# Altium footprint library 纽扣电池座.PcbLib: 5 footprints
Each footprint in its own frame and in the unit in brackets; x right, y up, seen from the top. Pads: shape width x height; smd on the part's side, far side on the other; paste and mask are expansions set on the pad; w line width, h text height; cw(c..) or ccw(c..) is an arc to the next point about the centre after c.
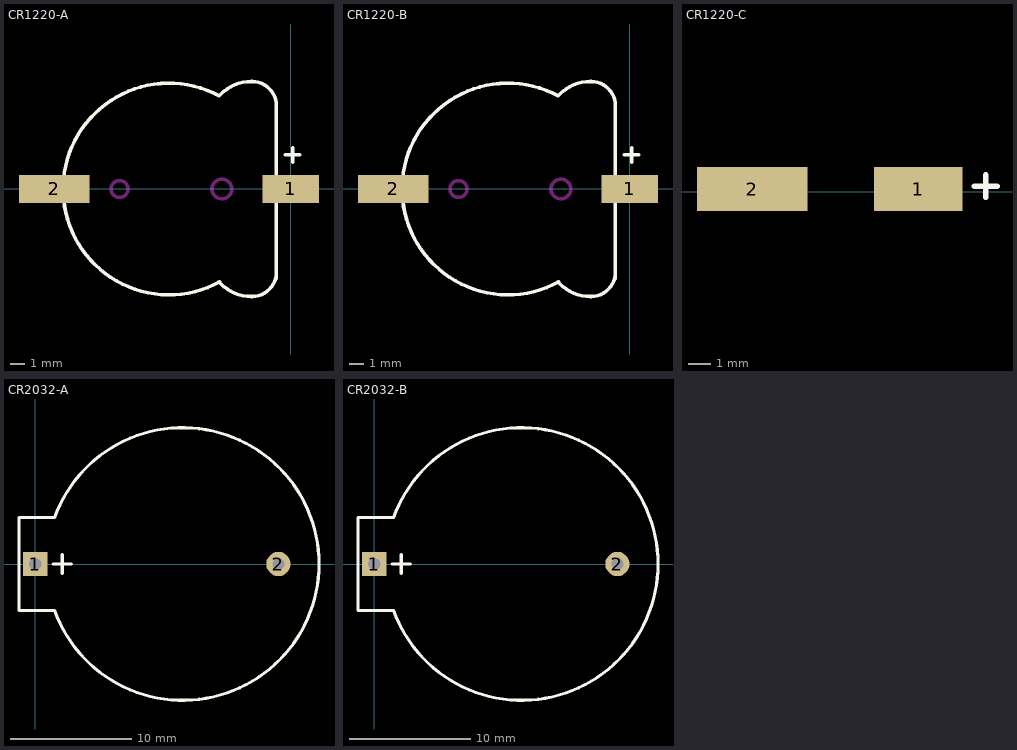
[diagram p0: the footprints below, top view; thin cyan lines are the x and y axes]

## CR1220-A [mm]
pads (2):
  rect 4x2 smd: 1(0,0)
  rect 5x2 smd: 2(-16.764,0)
Top Overlay:
  lines w0.254: -5.08,-6.604 -4.962,-6.722 ccw(c-2.794,-4.554) -2.794,-7.62 -2.75,-7.62 ccw(c-2.75,-5.886) -1.524,-7.112 ccw(c-2.75,-5.886) -1.016,-5.886 ; -5.039,-6.582 cw(c-8.636,0) -5.08,6.604 -4.962,6.722 cw(c-2.794,4.554) -2.794,7.62 -2.75,7.62 cw(c-2.75,5.886) -1.524,7.112 cw(c-2.75,5.886) -1.016,5.886 -1.016,1.016 ; -1.016,-6.35 -1.016,-6.096 -1.016,-1.016 ; -0.381,2.413 0.635,2.413 ; 0.127,1.905 0.127,2.921
Keep-Out Layer:
  circle w0.254: c-12.136,0 r0.6
  circle w0.254: c-4.886,0 r0.7
3D body "CR1220-A.STEP": height 4.05, standoff -0.85, extent -18.768,-7.366 0.988,7.534

## CR1220-B [mm]
pads (2):
  rect 4x2 smd: 1(0,0)
  rect 5x2 smd: 2(-16.764,0)
Top Overlay:
  lines w0.254: -5.08,-6.604 -4.962,-6.722 ccw(c-2.794,-4.554) -2.794,-7.62 -2.75,-7.62 ccw(c-2.75,-5.886) -1.524,-7.112 ccw(c-2.75,-5.886) -1.016,-5.886 ; -5.039,-6.582 cw(c-8.636,0) -5.08,6.604 -4.962,6.722 cw(c-2.794,4.554) -2.794,7.62 -2.75,7.62 cw(c-2.75,5.886) -1.524,7.112 cw(c-2.75,5.886) -1.016,5.886 -1.016,1.016 ; -1.016,-6.35 -1.016,-6.096 -1.016,-1.016 ; -0.381,2.413 0.635,2.413 ; 0.127,1.905 0.127,2.921
Keep-Out Layer:
  circle w0.254: c-12.136,0 r0.6
  circle w0.254: c-4.886,0 r0.7
3D body "CR1220-B.STEP": height 4.05, standoff -0.85, extent -18.514,-7.28 1.242,7.62

## CR1220-C [mm]
pads (2):
  rect 4x2 smd: 1(-4.572,0.127)
  rect 5x2 smd: 2(-12.065,0.127)
Top Overlay:
  lines w0.254: -2.032,0.254 -1.016,0.254 ; -1.524,-0.254 -1.524,0.762
Keep-Out Layer:
  circle w0.254: c-12.136,0 r0.6
  circle w0.254: c-4.886,0 r0.7
3D body "CR1220-立式.STEP": height 13.25, standoff -2.48, extent -15.013,-1.207 -2.513,1.493

## CR2032-A [mm]
pads (2):
  rect 2x2 hole 1: 1(0,0)
  round 2 hole 1: 2(20,0)
Top Overlay:
  lines w0.254: 1.458,0 2.982,0 ; 2.22,-0.762 2.22,0.762 ; -1.336,-3.81 1.585,-3.81 ccw(c12.126,0) 1.585,3.81 -1.336,3.81 -1.336,-3.81
3D body "CR2032-A.STEP": height 8.75, standoff -3.05, extent -1.159,-11.099 23.241,11.099

## CR2032-B [mm]
pads (2):
  rect 2x2 hole 1: 1(0,0)
  round 2 hole 1: 2(20,0)
Top Overlay:
  lines w0.254: 1.458,0 2.982,0 ; 2.22,-0.762 2.22,0.762 ; -1.336,-3.81 -1.336,3.81 1.585,3.81 cw(c12.126,0) 1.585,-3.81 -1.336,-3.81
3D body "CR2032-B.STEP": height 8.75, standoff -3.05, extent -1.286,-11.099 23.114,11.099